# EAGLE library part IC-LED-MAX6955-SO (library mylib)
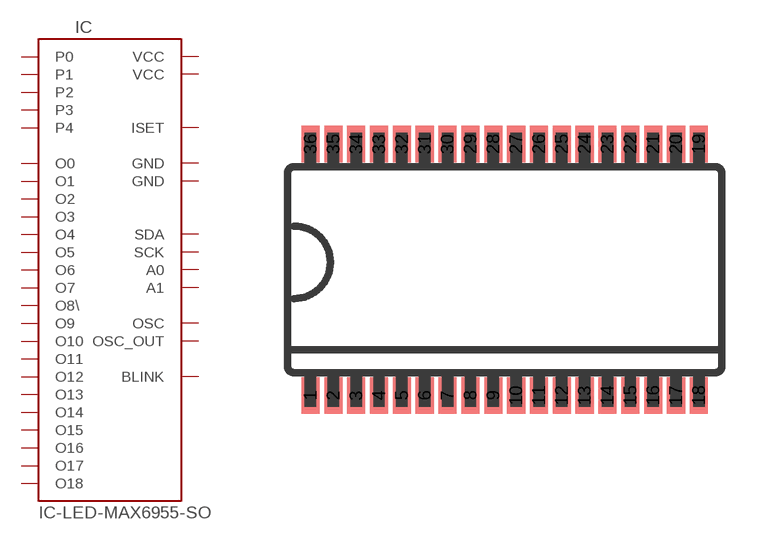
[diagram p89: symbol with the pads of IC-36-0.8-300MIL; footprint IC-36-0.8-300MIL]

Designator prefix IC

## IC-LED-MAX6955-SO  [IC-36-0.8-300MIL]
1  P0
2  P1
3  A0
4  SDA
5  SCK
6  A1
7  O0
8  O1
9  O2
10  O3
11  O4
12  O5
13  O6
14  O7
15  O8\
16  GND  pwr
17  ISET  in
18  GND  pwr
19  VCC  pwr
20  OSC  in
21  VCC  pwr
22  O9
23  O10
24  O11
25  O12
26  O13
27  O14
28  O15
29  O16
30  O17
31  O18
32  BLINK  oc
33  OSC_OUT  out
34  P2
35  P3
36  P4

## Footprint IC-36-0.8-300MIL (pad centres in mm)
smd 0.635 x 1.27: 1 -6.8,-4.6; 2 -6,-4.6; 3 -5.2,-4.6; 4 -4.4,-4.6; 5 -3.6,-4.6; 6 -2.8,-4.6; 7 -2,-4.6; 8 -1.2,-4.6; 9 -0.4,-4.6; 10 0.4,-4.6; 11 1.2,-4.6; 12 2,-4.6; 13 2.8,-4.6; 14 3.6,-4.6; 15 4.4,-4.6; 16 5.2,-4.6; 17 6,-4.6; 18 6.8,-4.6; 19 6.8,4.2; 20 6,4.2; 21 5.2,4.2; 22 4.4,4.2; 23 3.6,4.2; 24 2.8,4.2; 25 2,4.2; 26 1.2,4.2; 27 0.4,4.2; 28 -0.4,4.2; 29 -1.2,4.2; 30 -2,4.2; 31 -2.8,4.2; 32 -3.6,4.2; 33 -4.4,4.2; 34 -5.2,4.2; 35 -6,4.2; 36 -6.8,4.2